# Altium footprint library LM61495RPHR.PcbLib: 1 footprints
Each footprint in its own frame and in the unit in brackets; x right, y up, seen from the top. Pads: shape width x height; smd on the part's side, far side on the other; paste and mask are expansions set on the pad; w line width, h text height; cw(c..) or ccw(c..) is an arc to the next point about the centre after c.
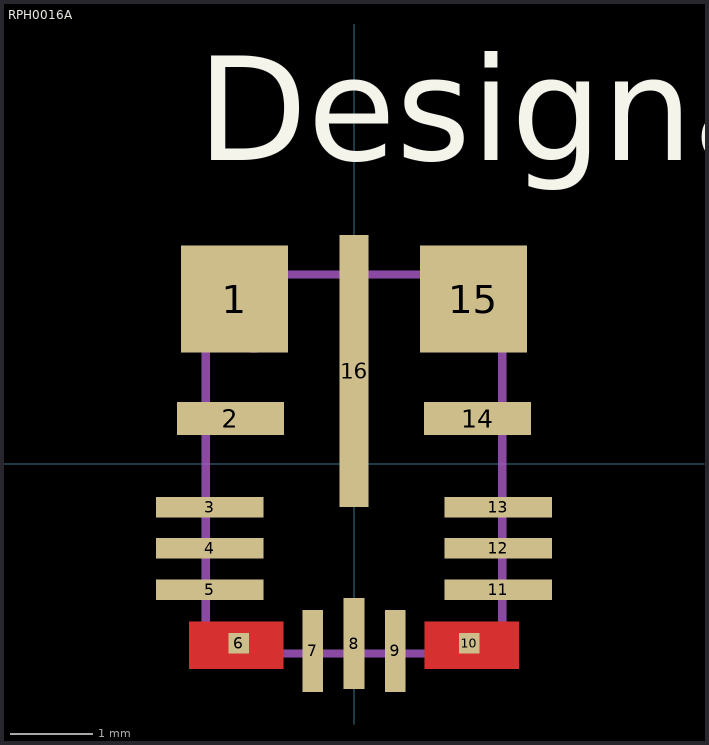
[diagram p0: the footprint, top view; thin cyan lines are the x and y axes]

## RPH0016A [mm]
pads (16):
  rect 1.3x1.3 smd mask+0.051: 1(-1.45,2) 15(1.45,2)
  rect 1.3x0.4 smd paste+0 mask+0.051: 2(-1.5,0.55) 14(1.5,0.55)
  rect 1.3x0.25 smd paste+0 mask+0.04: 3(-1.75,-0.525) 4(-1.75,-1.025) 5(-1.75,-1.525) 11(1.75,-1.525) 12(1.75,-1.025) 13(1.75,-0.525)
  rect 0.25x0.25 smd paste-0.112 mask+0.051: 6(-1.4,-2.175) 10(1.4,-2.175)
  rect 0.25x1 smd paste+0 mask+0.04: 7(-0.5,-2.27) 9(0.5,-2.27)
  rect 0.25x1.1 smd paste+0 mask+0.04: 8(0,-2.18)
  rect 0.35x3.3 smd paste+0 mask+0.051: 16(0,1.13)
Top Layer:
  rectangle: 0.858,-2.486 2.001,-1.914
  rectangle: -2.001,-2.486 -0.858,-1.914
Top Overlay:
  text "Designator10" at -1.905,3.683 h1.27
Mechanical 13:
  circle w0.1: c-1.2,1.7 r0.3
  lines w0.1: -1.8,-2.3 1.8,-2.3 1.8,2.3 -1.8,2.3 -1.8,-2.3
3D body "RPH0016B.stp": height 1, standoff 0, extent -1.75,-2.25 1.75,2.25